# Altium schematic symbol library SCH - MCU - RENESAS - RENESAS R7FS1JA7XXXXXXBT 36BGA.SchLib: 1 symbol
Pins are listed as number, name and electrical type; pins without a type are passive.

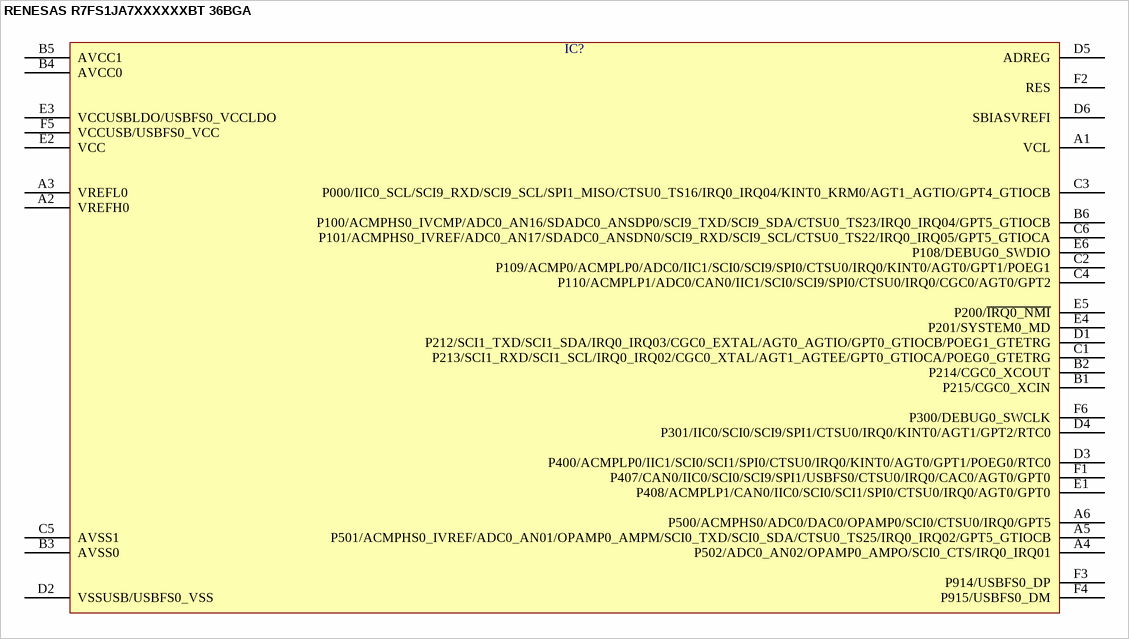
[diagram p0: symbol RENESAS R7FS1JA7XXXXXXBT 36BGA]

## RENESAS R7FS1JA7XXXXXXBT 36BGA
designator IC?  (value not drawn)
pins: A1 VCL, A2 VREFH0, A3 VREFL0, A4 P502/ADC0_AN02/OPAMP0_AMPO/SCI0_CTS/IRQ0_IRQ01, A5 P501/ACMPHS0_IVREF/ADC0_AN01/OPAMP0_AMPM/SCI0_TXD/SCI0_SDA/CTSU0_TS25/IRQ0_IRQ02/GPT5_GTIOCB, A6 P500/ACMPHS0/ADC0/DAC0/OPAMP0/SCI0/CTSU0/IRQ0/GPT5, B1 P215/CGC0_XCIN, B2 P214/CGC0_XCOUT, B3 AVSS0, B4 AVCC0, B5 AVCC1, B6 P100/ACMPHS0_IVCMP/ADC0_AN16/SDADC0_ANSDP0/SCI9_TXD/SCI9_SDA/CTSU0_TS23/IRQ0_IRQ04/GPT5_GTIOCB, C1 P213/SCI1_RXD/SCI1_SCL/IRQ0_IRQ02/CGC0_XTAL/AGT1_AGTEE/GPT0_GTIOCA/POEG0_GTETRG, C2 P109/ACMP0/ACMPLP0/ADC0/IIC1/SCI0/SCI9/SPI0/CTSU0/IRQ0/KINT0/AGT0/GPT1/POEG1, C3 P000/IIC0_SCL/SCI9_RXD/SCI9_SCL/SPI1_MISO/CTSU0_TS16/IRQ0_IRQ04/KINT0_KRM0/AGT1_AGTIO/GPT4_GTIOCB, C4 P110/ACMPLP1/ADC0/CAN0/IIC1/SCI0/SCI9/SPI0/CTSU0/IRQ0/CGC0/AGT0/GPT2, C5 AVSS1, C6 P101/ACMPHS0_IVREF/ADC0_AN17/SDADC0_ANSDN0/SCI9_RXD/SCI9_SCL/CTSU0_TS22/IRQ0_IRQ05/GPT5_GTIOCA, D1 P212/SCI1_TXD/SCI1_SDA/IRQ0_IRQ03/CGC0_EXTAL/AGT0_AGTIO/GPT0_GTIOCB/POEG1_GTETRG, D2 VSSUSB/USBFS0_VSS, D3 P400/ACMPLP0/IIC1/SCI0/SCI1/SPI0/CTSU0/IRQ0/KINT0/AGT0/GPT1/POEG0/RTC0, D4 P301/IIC0/SCI0/SCI9/SPI1/CTSU0/IRQ0/KINT0/AGT1/GPT2/RTC0, D5 ADREG, D6 SBIASVREFI, E1 P408/ACMPLP1/CAN0/IIC0/SCI0/SCI1/SPI0/CTSU0/IRQ0/AGT0/GPT0, E2 VCC, E3 VCCUSBLDO/USBFS0_VCCLDO, E4 P201/SYSTEM0_MD, E5 P200/~{IRQ0_NMI}, E6 P108/DEBUG0_SWDIO, F1 P407/CAN0/IIC0/SCI0/SCI9/SPI1/USBFS0/CTSU0/IRQ0/CAC0/AGT0/GPT0, F2 RES, F3 P914/USBFS0_DP, F4 P915/USBFS0_DM, F5 VCCUSB/USBFS0_VCC, F6 P300/DEBUG0_SWCLK